# EAGLE library part ARDUINO_PRO_MICRO (library pie)
Arduino Pro Micro Electrical System Year 9's Smart Sensor Core Pin Outs <https://cdn.sparkfun.com/assets/9/c/3/c/4/523a1765757b7f5c6e8b4567.png> Buy Here <http://www.aliexpress.com/item/Mini-Leonardo-Pro-Micro-ATmega32U4-5V-16MHz-Module-For-Arduino-Best-Quality/32284746884.html?ws_ab_test=searchweb201556_8,searchweb201602_2_10057_10056_10065_10055_10054_10067_10069_10059_10058_10017_10070_10060_10061_10052_10062_10053_10050_10051,searchweb201603_1&btsid=45993952-29ca-4de4-a0fb-c7fb72b8e1a5> Thru Hole Female Pins <http://www.digikey.com/product-search/en?keywords=929974E-01-12-ND> Surface Mount Female Pins <http://www.digikey.com/product-detail/en/sullins-connector-solutions/NPTC121KFXC-RC/S5604-ND/776062>
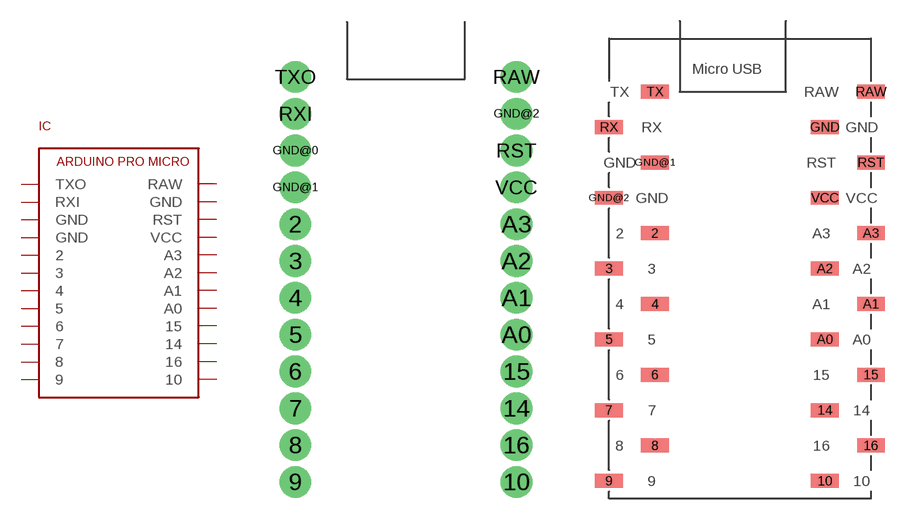
[diagram p33: symbol with the pads of ARDUINO_PRO_MICRO; footprints ARDUINO_PRO_MICRO, ARDUINO_PRO_MICRO_SM]

Designator prefix IC

## ARDUINO_PRO_MICRO (DESCRIPTION: Arduino Pro Micro; DISTRIBUTOR: AliExpress; DISTRIBUTOR_PART_NUMBER: 32284746884; MANUFACTURER: Feiyang electronics; NOTES: https://www.aliexpress.com/item/Mini-Leonardo-Pro-Micro-ATmega32U4-5V-16MHz-Module-For-Arduino-Best-Quality/32284746884.html?ws_ab_test=searchweb201556_8,searchweb201602_2_10057_10056_10065_10055_10054_10067_10069_10059_10058_10017_10070_10060_10061_10052_10062_10053_10050_10051,searchweb201603_1&btsid=45993952-29ca-4de4-a0fb-c7fb72b8e1a5; PACKAGE: ARDUINO_PRO_MICRO; REFERENCE_DEST: ARDUINO_PRO_MICRO)  [ARDUINO_PRO_MICRO]
2  2
3  3
4  4
5  5
6  6
7  7
8  8
9  9
10  10
14  14
15  15
16  16
A0  A0
A1  A1
A2  A2
A3  A3
GND@0  GND
GND@1  GND
GND@2  GND
RAW  RAW
RST  RST
RXI  RXI
TXO  TXO
VCC  VCC

## ARDUINO_PRO_MICROSMD  [ARDUINO_PRO_MICRO_SM]
2  2
3  3
4  4
5  5
6  6
7  7
8  8
9  9
10  10
14  14
15  15
16  16
A0  A0
A1  A1
A2  A2
A3  A3
GND  GND
GND@1  GND
GND@2  GND
RAW  RAW
RST  RST
RX  RXI
TX  TXO
VCC  VCC

## Footprint ARDUINO_PRO_MICRO (pad centres in mm)
drill 1 pad 2.184: 2 1.778,19.558; 3 1.778,17.018; 4 1.778,14.478; 5 1.778,11.938; 6 1.778,9.398; 7 1.778,6.858; 8 1.778,4.318; 9 1.778,1.778; 10 17.018,1.778; 14 17.018,6.858; 15 17.018,9.398; 16 17.018,4.318; A0 17.018,11.938; A1 17.018,14.478; A2 17.018,17.018; A3 17.018,19.558; GND@0 1.778,24.638; GND@1 1.778,22.098; GND@2 17.018,27.178; RAW 17.018,29.718; RST 17.018,24.638; RXI 1.778,27.178; TXO 1.778,29.718; VCC 17.018,22.098

## Footprint ARDUINO_PRO_MICRO_SM (pad centres in mm)
Arduino Pro Micro Surface Mount Surface Mount for APM
smd 2 x 1: 2 3.302,19.05; 3 0,16.51; 4 3.302,13.97; 5 0,11.43; 6 3.302,8.89; 7 0,6.35; 8 3.302,3.81; 9 0,1.27; 10 15.494,1.27; 14 15.494,6.35; 15 18.796,8.89; 16 18.796,3.81; A0 15.494,11.43; A1 18.796,13.97; A2 15.494,16.51; A3 18.796,19.05; GND 15.494,26.67; GND@1 3.302,24.13; GND@2 0,21.59; RAW 18.796,29.21; RST 18.796,24.13; RX 0,26.67; TX 3.302,29.21; VCC 15.494,21.59